# Altium footprint library SparkFun-Connectors.PCBLIB: 305 footprints (part 3 of 20)
Each footprint in its own frame and in the unit in brackets; x right, y up, seen from the top. Pads: shape width x height; smd on the part's side, far side on the other; paste and mask are expansions set on the pad; w line width, h text height; cw(c..) or ccw(c..) is an arc to the next point about the centre after c.
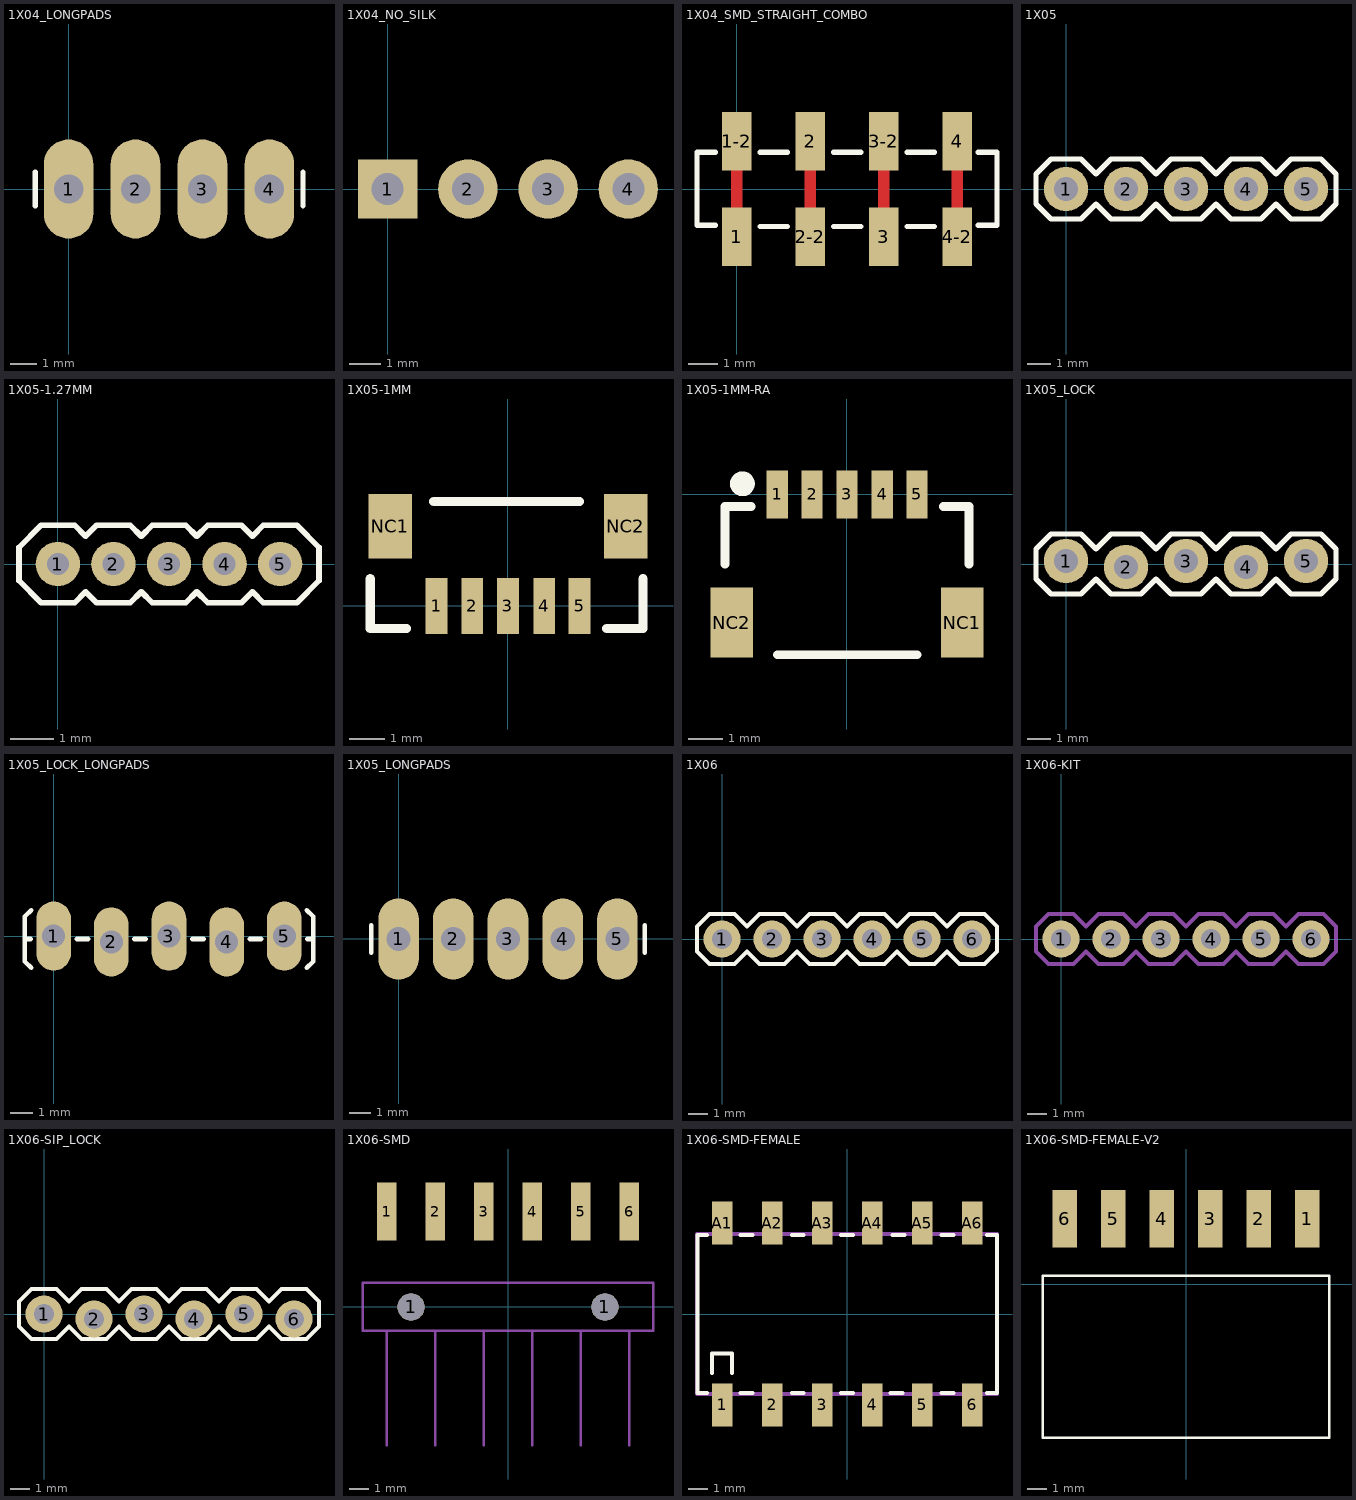
[diagram p2: the footprints below, top view; thin cyan lines are the x and y axes]

## 1X04_LONGPADS [mil]
pads (4):
  oval 74x148 hole 44: 1(0,0) 2(100,0) 3(200,0) 4(300,0)
Top Overlay:
  lines w8: -50,-25 -50,25 ; 350,-25 350,25
Mechanical 16:
  rectangle: 290,-10 310,10
  rectangle: 190,-10 210,10
  rectangle: 90,-10 110,10
  rectangle: -10,-10 10,10

## 1X04_NO_SILK [mil]
pads (4):
  rect 74x74 hole 40: 1(0,0)
  round 74 hole 40: 2(100,0) 3(200,0) 4(300,0)
Mechanical 16:
  rectangle: 290,-10 310,10
  rectangle: 190,-10 210,10
  rectangle: 90,-10 110,10
  rectangle: -10,-10 10,10

## 1X04_SMD_STRAIGHT_COMBO [mil]
pads (8):
  rect 40x79 smd: 1(0,-64.96) 1-2(0,65) 2(100,65) 2-2(100,-64.96) 3(200,-64.96) 3-2(200,65) 4(300,65) 4-2(300,-64.96)
Top Layer:
  lines w16: 0,-50 0,50 ; 100,-50 100,50 ; 200,-50 200,50 ; 300,-50 300,50
Top Overlay:
  lines w7: -28.74,-49.21 -53.94,-49.21 -53.94,50 -28.74,50 ; 32,-50.79 69,-50.79 ; 32,50 69,50 ; 132,-50.79 169,-50.79 ; 132,50 169,50 ; 232,-50.79 269,-50.79 ; 232,50 269,50 ; 328,-49.21 354,-49.21 354,50 328,50

## 1X05 [mil]
pads (5):
  round 74 hole 40: 1(0,0) 2(100,0) 3(200,0) 4(300,0) 5(400,0)
Top Overlay:
  lines w8: -50,-25 -50,25 -25,50 25,50 50,25 75,50 125,50 150,25 175,50 225,50 250,25 275,50 325,50 350,25 375,50 425,50 450,25 450,-25 425,-50 375,-50 350,-25 325,-50 275,-50 250,-25 225,-50 175,-50 150,-25 125,-50 75,-50 50,-25 25,-50 -25,-50 -50,-25
Mechanical 16:
  rectangle: 390,-10 410,10
  rectangle: 290,-10 310,10
  rectangle: 190,-10 210,10
  rectangle: 90,-10 110,10
  rectangle: -10,-10 10,10

## 1X05-1.27MM [mil]
pads (5):
  round 40 hole 20: 1(0,0) 2(50,0) 3(100,0) 4(150,0) 5(200,0)
Top Overlay:
  lines w5: -35,-15 -15,-35 15,-35 25,-25 35,-35 65,-35 75,-25 85,-35 115,-35 125,-25 135,-35 165,-35 175,-25 185,-35 215,-35 235,-15 235,15 215,35 185,35 175,25 165,35 135,35 125,25 115,35 85,35 75,25 65,35 35,35 25,25 15,35 -15,35 -35,15 -35,-15

## 1X05-1MM [mil]
pads (7):
  rect 24x62 smd: 1(-78.74,0) 2(-39.37,0) 3(0,0) 4(40,0) 5(79,0)
  rect 48x71 smd: NC1(-129.92,88) NC2(130,88)
Top Overlay:
  lines w10: -151.89,30 -151.89,-25 -111.89,-25 ; -81.89,115 79,115 ; 109,-25 149,-25 149,30

## 1X05-1MM-RA [mil]
pads (7):
  rect 24x54 smd: 1(-78.74,0) 2(-39.37,0) 3(0,0) 4(40,0) 5(79,0)
  rect 48x79 smd: NC1(130,-144.69) NC2(-129.92,-144.69)
Top Overlay:
  circle w16: c-118.11,12 r6
  lines w10: -137.8,-78.74 -137.8,-13.78 -108.27,-13.78 ; -78.74,-181.1 79,-181.1 ; 109,-13.78 138,-13.78 138,-78.74

## 1X05_LOCK [mil]
pads (5):
  round 74 hole 40: 1(0,5) 2(100,-5) 3(200,5) 4(300,-5) 5(400,5)
Top Overlay:
  lines w8: -50,-25 -50,25 -25,50 25,50 50,25 75,50 125,50 150,25 175,50 225,50 250,25 275,50 325,50 350,25 375,50 425,50 450,25 450,-25 425,-50 375,-50 350,-25 325,-50 275,-50 250,-25 225,-50 175,-50 150,-25 125,-50 75,-50 50,-25 25,-50 -25,-50 -50,-25
Mechanical 16:
  rectangle: 390,-10 410,10
  rectangle: 290,-10 310,10
  rectangle: 190,-10 210,10
  rectangle: 90,-10 110,10
  rectangle: -10,-10 10,10

## 1X05_LOCK_LONGPADS [mil]
pads (5):
  oval 60x120 hole 40: 1(0,0) 2(100,-10) 3(200,0) 4(300,-10) 5(400,0)
Top Overlay:
  lines w8: -40,-5 -50,-5 ; -39,-55 -50,-44 -50,-5 ; -39,45 -50,34 -50,-5 ; 40,-5 60,-5 ; 140,-5 160,-5 ; 240,-5 260,-5 ; 340,-5 360,-5 ; 439,-55 450,-44 450,-5 ; 439,45 450,34 450,-5 ; 440,-5 450,-5
Mechanical 16:
  rectangle: -11.5,-16.5 12,7
  rectangle: 89,-16.5 112,7
  rectangle: 189,-16.5 212,7
  region: 312.25,-16.25 312.25,6.75 288.75,6.75 288.75,-16.25
  rectangle: 389,-16.5 412,7

## 1X05_LONGPADS [mil]
pads (5):
  oval 74x148 hole 44: 1(0,0) 2(100,0) 3(200,0) 4(300,0) 5(400,0)
Top Overlay:
  lines w8: -50,-25 -50,25 ; 450,-25 450,25
Mechanical 16:
  rectangle: 390,-10 410,10
  rectangle: 290,-10 310,10
  rectangle: 190,-10 210,10
  rectangle: 90,-10 110,10
  rectangle: -10,-10 10,10

## 1X06 [mil]
pads (6):
  round 74 hole 40: 1(0,0) 2(100,0) 3(200,0) 4(300,0) 5(400,0) 6(500,0)
Top Overlay:
  lines w8: -50,-25 -50,25 -25,50 25,50 50,25 75,50 125,50 150,25 175,50 225,50 250,25 275,50 325,50 350,25 375,50 425,50 450,25 475,50 525,50 550,25 550,-25 525,-50 475,-50 450,-25 425,-50 375,-50 350,-25 325,-50 275,-50 250,-25 225,-50 175,-50 150,-25 125,-50 75,-50 50,-25 25,-50 -25,-50 -50,-25
Mechanical 16:
  rectangle: 490,-10 510,10
  rectangle: 390,-10 410,10
  rectangle: 290,-10 310,10
  rectangle: 190,-10 210,10
  rectangle: 90,-10 110,10
  rectangle: -10,-10 10,10

## 1X06-KIT [mil]
pads (6):
  round 74 hole 40: 1(0,0) 2(100,0) 3(200,0) 4(300,0) 5(400,0) 6(500,0)
Top Solder:
  region: 0,0 10,0 10,10 0,10
  region: 0,0 10,0 10,10 0,10
  region: 0,0 10,0 10,10 0,10
  region: 0,0 10,0 10,10 0,10
  region: 0,0 10,0 10,10 0,10
  region: 0,0 10,0 10,10 0,10
Bottom Solder:
  region: 0,0 10,0 10,10 0,10
  region: 0,0 10,0 10,10 0,10
  region: 0,0 10,0 10,10 0,10
  region: 0,0 10,0 10,10 0,10
  region: 0,0 10,0 10,10 0,10
  region: 0,0 10,0 10,10 0,10
Mechanical 16:
  rectangle: 490,-10 510,10
  rectangle: 390,-10 410,10
  rectangle: 290,-10 310,10
  rectangle: 190,-10 210,10
  rectangle: 90,-10 110,10
  rectangle: -10,-10 10,10
  lines w8: -50,-25 -50,25 -25,50 25,50 50,25 75,50 125,50 150,25 175,50 225,50 250,25 275,50 325,50 350,25 375,50 425,50 450,25 475,50 525,50 550,25 550,-25 525,-50 475,-50 450,-25 425,-50 375,-50 350,-25 325,-50 275,-50 250,-25 225,-50 175,-50 150,-25 125,-50 75,-50 50,-25 25,-50 -25,-50 -50,-25

## 1X06-SIP_LOCK [mil]
pads (6):
  round 74 hole 40: 1(0,0) 2(100,-10) 3(200,0) 4(300,-10) 5(400,0) 6(500,-10)
Top Overlay:
  lines w8: -50,-25 -50,25 -25,50 25,50 50,25 75,50 125,50 150,25 175,50 225,50 250,25 275,50 325,50 350,25 375,50 425,50 450,25 475,50 525,50 550,25 550,-25 525,-50 475,-50 450,-25 425,-50 375,-50 350,-25 325,-50 275,-50 250,-25 225,-50 175,-50 150,-25 125,-50 75,-50 50,-25 25,-50 -25,-50 -50,-25
Mechanical 16:
  rectangle: -11.5,-16.5 12,7
  rectangle: 89,-16.5 112,7
  rectangle: 189,-16.5 212,7
  rectangle: 289,-16.5 312,7
  rectangle: 389,-16.5 412,7
  rectangle: 489,-16.5 512,7

## 1X06-SMD [mil]
pads (8):
  rect 40x119 smd: 1(-250,197) 2(-150,197) 3(-50,197) 4(50,197) 5(150,197) 6(250,197)
  round 56 hole 56: 1(-200,0) 1(200,0)
Mechanical 16:
  lines w5: -250,-285.43 -250,-49.21 ; -150,-285.43 -150,-49.21 ; -50,-285.43 -50,-49.21 ; 50,-285.43 50,-49.21 ; 150,-285.43 150,-49.21 ; 250,-285.43 250,-49.21 ; -250,-49.21 -300,-49.21 -300,50 300,50 300,-49.21 250,-49.21 ; -250,-49.21 -150,-49.21 ; -150,-49.21 -50,-49.21 ; -50,-49.21 50,-49.21 ; 50,-49.21 150,-49.21 ; 150,-49.21 250,-49.21

## 1X06-SMD-FEMALE [mil]
pads (12):
  rect 41x86 smd: 1(-250,-181.89) 2(-150,-181.89) 3(-50,-181.89) 4(50,-181.89) 5(150,-181.89) 6(250,-181.89) A1(-250,182) A2(-150,182) A3(-50,182) A4(50,182) A5(150,182) A6(250,182)
Top Overlay:
  lines w8: -279.53,-157.48 -299.21,-157.48 -299.21,158 -279.53,158 ; -269.69,-118.11 -269.69,-78.74 -230.31,-78.74 -230.31,-118.11 ; -212.6,-157.48 -188.98,-157.48 ; -212.6,158 -188.98,158 ; -110.24,-157.48 -86.61,-157.48 ; -110.24,158 -86.61,158 ; -11.81,-157.48 12,-157.48 ; -11.81,158 12,158 ; 87,-157.48 111,-157.48 ; 91,158 115,158 ; 189,-157.48 213,-157.48 ; 189,158 213,158 ; 280,-157.48 300,-157.48 300,158 280,158
Mechanical 16:
  lines w8: -300,-159.45 300,-159.45 300,160 -300,160 -300,-159.45

## 1X06-SMD-FEMALE-V2 [mil]
pads (6):
  rect 50x119 smd: 1(250,135) 2(150,135) 3(50,135) 4(-50,135) 5(-150,135) 6(-250,135)
Top Overlay:
  lines w5: -295.28,-316.93 -295.28,18 296,18 296,-316.93 -295.28,-316.93